# Altium integrated library Actel ProASIC3.IntLib: 427 symbols (part 4 of 68)
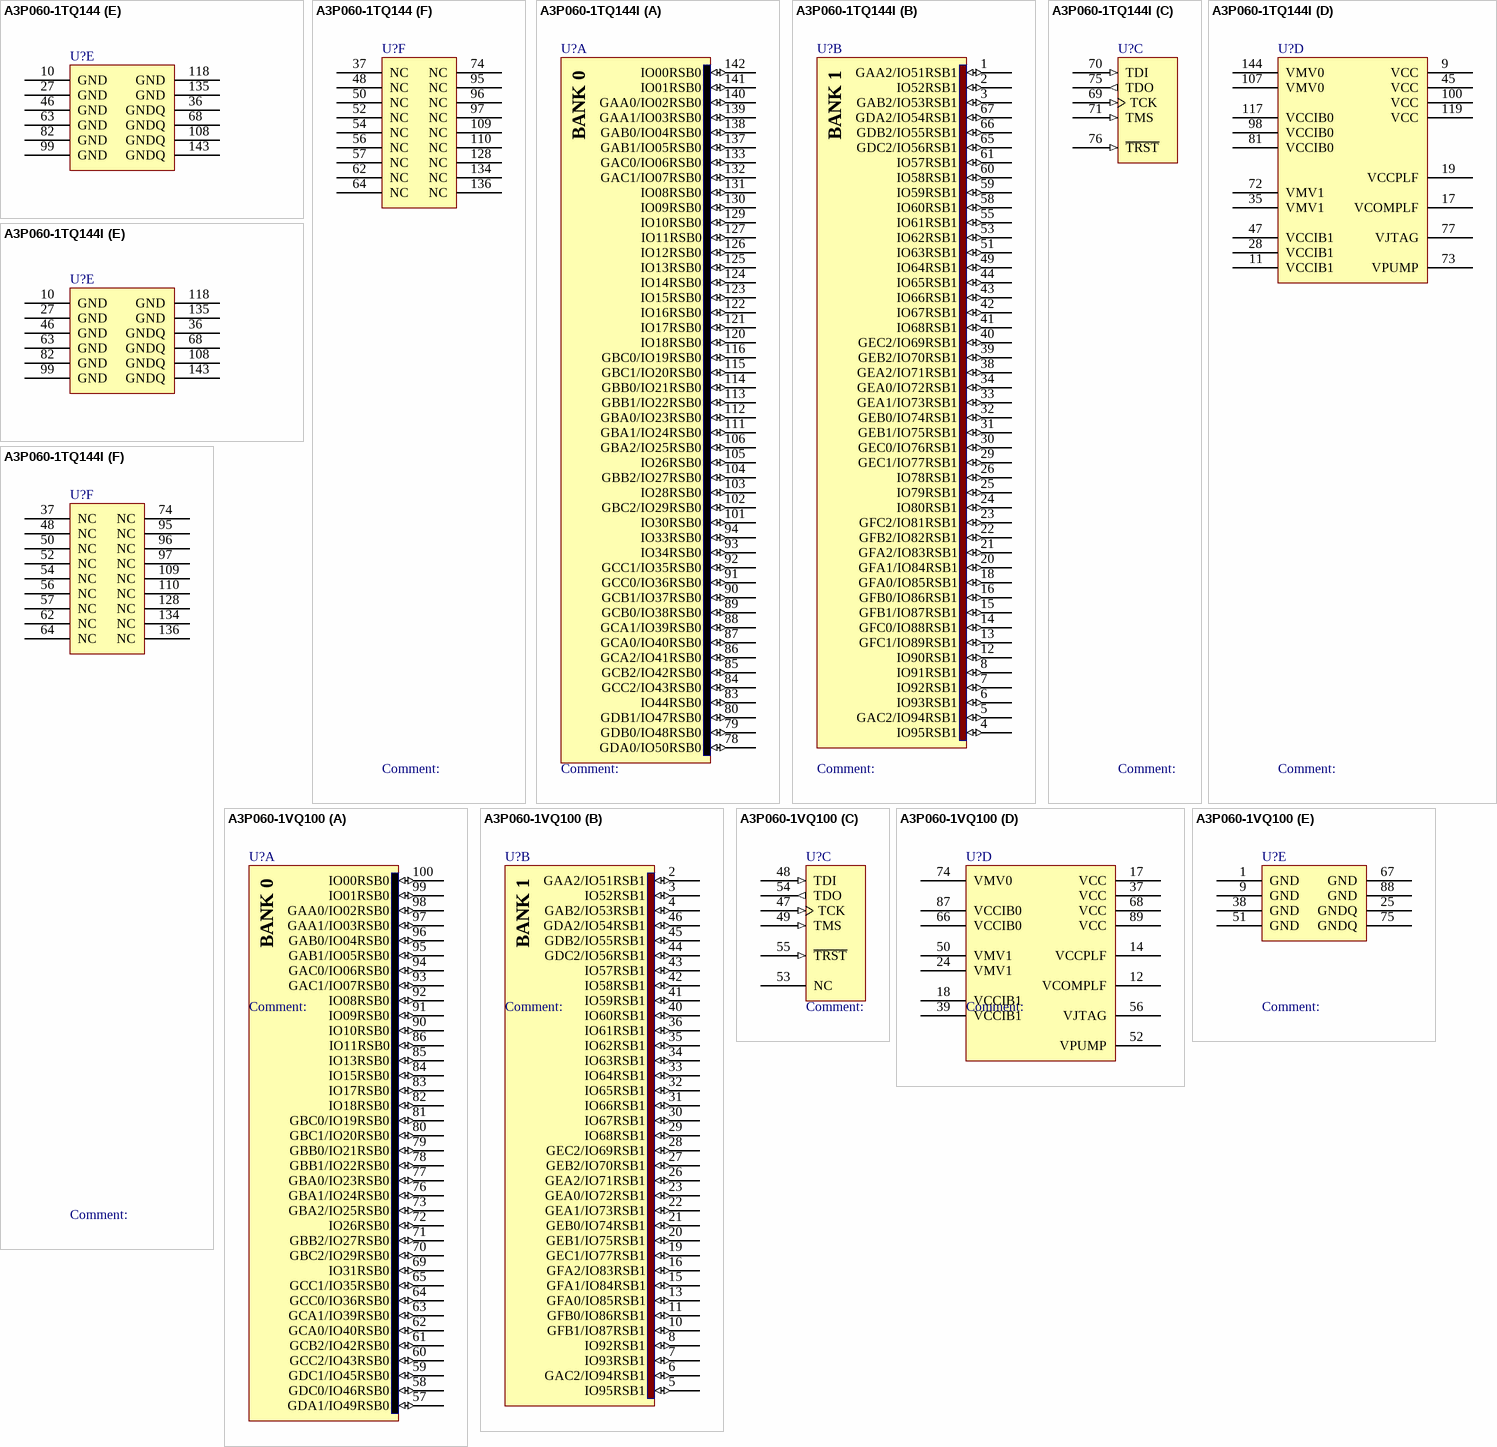
[diagram p402: symbols A3P060-1TQ144 to A3P060-1VQ100]

## A3P060-1TQ144I
designator U?
ProASIC3 Flash Family FPGA, 91 User IOs, 60K System Gates, 18 Kbits RAM, 1 Kbit Flash ROM, 1 PLL, 144-Pin TQFP, Industrial Grade; Published: 4-Mar-2005; LatestRevisionDate: 13-Apr-2006; LatestRevisionNote: IPC-7351 Footprint Added. Pinout changed to match DS ver 0.6.; DatasheetVersion: v1.1, Feb-2009; PackageVersion: v11.0, Feb-2009; PackageReference: TQ144; Publisher: Altium Limited; PackageDescription: 144-Pin Plastic Quad Flat Pack (TQ144); Code_JEDEC: MS-026-BFB; ComponentLink1Description: Manufacturer Link; ComponentLink1URL: http://www.actel.com/products/pa3/; ComponentLink2Description: Datasheet; ComponentLink2URL: http://www.actel.com/documents/PA3_DS.pdf; ComponentLink3Description: Packaging Specification; ComponentLink3URL: http://www.actel.com/documents/PckgMechDrwngs.pdf
footprint TQ144_N (Thin QFP, 144-Leads, Body 20x20mm, Pitch 0.5mm, IPC Medium Density)
footprint TQ144_L (Thin QFP, 144-Leads, Body 20x20mm, Pitch 0.5mm, IPC High Density)
footprint TQ144_M (Thin QFP, 144-Leads, Body 20x20mm, Pitch 0.5mm, IPC Low Density)
3D model A3P060-TQ144 (144-Pin Plastic Quad Flat Pack (TQ144))
signal-integrity model A3P060_TQ144 (ProASIC3)
part A pins: 78 GDA0/IO50RSB0 (io), 79 GDB0/IO48RSB0 (io), 80 GDB1/IO47RSB0 (io), 83 IO44RSB0 (io), 84 GCC2/IO43RSB0 (io), 85 GCB2/IO42RSB0 (io), 86 GCA2/IO41RSB0 (io), 87 GCA0/IO40RSB0 (io), 88 GCA1/IO39RSB0 (io), 89 GCB0/IO38RSB0 (io), 90 GCB1/IO37RSB0 (io), 91 GCC0/IO36RSB0 (io), 92 GCC1/IO35RSB0 (io), 93 IO34RSB0 (io), 94 IO33RSB0 (io), 101 IO30RSB0 (io), 102 GBC2/IO29RSB0 (io), 103 IO28RSB0 (io), 104 GBB2/IO27RSB0 (io), 105 IO26RSB0 (io), 106 GBA2/IO25RSB0 (io), 111 GBA1/IO24RSB0 (io), 112 GBA0/IO23RSB0 (io), 113 GBB1/IO22RSB0 (io), 114 GBB0/IO21RSB0 (io), 115 GBC1/IO20RSB0 (io), 116 GBC0/IO19RSB0 (io), 120 IO18RSB0 (io), 121 IO17RSB0 (io), 122 IO16RSB0 (io), 123 IO15RSB0 (io), 124 IO14RSB0 (io), 125 IO13RSB0 (io), 126 IO12RSB0 (io), 127 IO11RSB0 (io), 129 IO10RSB0 (io), 130 IO09RSB0 (io), 131 IO08RSB0 (io), 132 GAC1/IO07RSB0 (io), 133 GAC0/IO06RSB0 (io), 137 GAB1/IO05RSB0 (io), 138 GAB0/IO04RSB0 (io), 139 GAA1/IO03RSB0 (io), 140 GAA0/IO02RSB0 (io), 141 IO01RSB0 (io), 142 IO00RSB0 (io)
part B pins: 1 GAA2/IO51RSB1 (io), 2 IO52RSB1 (io), 3 GAB2/IO53RSB1 (io), 4 IO95RSB1 (io), 5 GAC2/IO94RSB1 (io), 6 IO93RSB1 (io), 7 IO92RSB1 (io), 8 IO91RSB1 (io), 12 IO90RSB1 (io), 13 GFC1/IO89RSB1 (io), 14 GFC0/IO88RSB1 (io), 15 GFB1/IO87RSB1 (io), 16 GFB0/IO86RSB1 (io), 18 GFA0/IO85RSB1 (io), 20 GFA1/IO84RSB1 (io), 21 GFA2/IO83RSB1 (io), 22 GFB2/IO82RSB1 (io), 23 GFC2/IO81RSB1 (io), 24 IO80RSB1 (io), 25 IO79RSB1 (io), 26 IO78RSB1 (io), 29 GEC1/IO77RSB1 (io), 30 GEC0/IO76RSB1 (io), 31 GEB1/IO75RSB1 (io), 32 GEB0/IO74RSB1 (io), 33 GEA1/IO73RSB1 (io), 34 GEA0/IO72RSB1 (io), 38 GEA2/IO71RSB1 (io), 39 GEB2/IO70RSB1 (io), 40 GEC2/IO69RSB1 (io), 41 IO68RSB1 (io), 42 IO67RSB1 (io), 43 IO66RSB1 (io), 44 IO65RSB1 (io), 49 IO64RSB1 (io), 51 IO63RSB1 (io), 53 IO62RSB1 (io), 55 IO61RSB1 (io), 58 IO60RSB1 (io), 59 IO59RSB1 (io), 60 IO58RSB1 (io), 61 IO57RSB1 (io), 65 GDC2/IO56RSB1 (io), 66 GDB2/IO55RSB1 (io), 67 GDA2/IO54RSB1 (io)
part C pins: 69 TCK (in), 70 TDI (in), 71 TMS (in), 75 TDO (out), 76 ~{TRST} (in)
part D pins: 9 VCC (power), 11 VCCIB1 (power), 17 VCOMPLF (power), 19 VCCPLF (power), 28 VCCIB1 (power), 35 VMV1 (power), 45 VCC (power), 47 VCCIB1 (power), 72 VMV1 (power), 73 VPUMP (power), 77 VJTAG (power), 81 VCCIB0 (power), 98 VCCIB0 (power), 100 VCC (power), 107 VMV0 (power), 117 VCCIB0 (power), 119 VCC (power), 144 VMV0 (power)
part E pins: 10 GND (power), 27 GND (power), 36 GNDQ (power), 46 GND (power), 63 GND (power), 68 GNDQ (power), 82 GND (power), 99 GND (power), 108 GNDQ (power), 118 GND (power), 135 GND (power), 143 GNDQ (power)
part F pins: 37 NC, 48 NC, 50 NC, 52 NC, 54 NC, 56 NC, 57 NC, 62 NC, 64 NC, 74 NC, 95 NC, 96 NC, 97 NC, 109 NC, 110 NC, 128 NC, 134 NC, 136 NC
part A text: BANK 0
part B text: BANK 1

## A3P060-1VQ100
designator U?
ProASIC3 Flash Family FPGA, 71 User IOs, 60K System Gates, 18 Kbits RAM, 1 Kbit Flash ROM, 1 PLL, 100-Pin VQFP, Commercial Grade; Published: 4-Mar-2005; LatestRevisionDate: 13-Apr-2006; LatestRevisionNote: IPC-7351 Footprint Added. Pinout changed to match DS ver 0.6.; DatasheetVersion: v1.1, Feb-2009; PackageVersion: v11.0, Feb-2009; PackageReference: VQ100; Publisher: Altium Limited; PackageDescription: 100-Pin Plastic Quad Flat Pack (VQ100); Code_JEDEC: MS-026-AED; ComponentLink1Description: Manufacturer Link; ComponentLink1URL: http://www.actel.com/products/pa3/; ComponentLink2Description: Datasheet; ComponentLink2URL: http://www.actel.com/documents/PA3_DS.pdf; ComponentLink3Description: Packaging Specification; ComponentLink3URL: http://www.actel.com/documents/PckgMechDrwngs.pdf
footprint VQ100_N (Thin QFP, 100-Leads, Body 14x14mm, Pitch 0.5mm, IPC Medium Density)
footprint VQ100_L (Thin QFP, 100-Leads, Body 14x14mm, Pitch 0.5mm, IPC High Density)
footprint VQ100_M (Thin QFP, 100-Leads, Body 14x14mm, Pitch 0.5mm, IPC Low Density)
3D model A3P060-VQ100 (100-Pin Plastic Quad Flat Pack (VQ100))
signal-integrity model A3P060_VQ100 (ProASIC3)
part A pins: 57 GDA1/IO49RSB0 (io), 58 GDC0/IO46RSB0 (io), 59 GDC1/IO45RSB0 (io), 60 GCC2/IO43RSB0 (io), 61 GCB2/IO42RSB0 (io), 62 GCA0/IO40RSB0 (io), 63 GCA1/IO39RSB0 (io), 64 GCC0/IO36RSB0 (io), 65 GCC1/IO35RSB0 (io), 69 IO31RSB0 (io), 70 GBC2/IO29RSB0 (io), 71 GBB2/IO27RSB0 (io), 72 IO26RSB0 (io), 73 GBA2/IO25RSB0 (io), 76 GBA1/IO24RSB0 (io), 77 GBA0/IO23RSB0 (io), 78 GBB1/IO22RSB0 (io), 79 GBB0/IO21RSB0 (io), 80 GBC1/IO20RSB0 (io), 81 GBC0/IO19RSB0 (io), 82 IO18RSB0 (io), 83 IO17RSB0 (io), 84 IO15RSB0 (io), 85 IO13RSB0 (io), 86 IO11RSB0 (io), 90 IO10RSB0 (io), 91 IO09RSB0 (io), 92 IO08RSB0 (io), 93 GAC1/IO07RSB0 (io), 94 GAC0/IO06RSB0 (io), 95 GAB1/IO05RSB0 (io), 96 GAB0/IO04RSB0 (io), 97 GAA1/IO03RSB0 (io), 98 GAA0/IO02RSB0 (io), 99 IO01RSB0 (io), 100 IO00RSB0 (io)
part B pins: 2 GAA2/IO51RSB1 (io), 3 IO52RSB1 (io), 4 GAB2/IO53RSB1 (io), 5 IO95RSB1 (io), 6 GAC2/IO94RSB1 (io), 7 IO93RSB1 (io), 8 IO92RSB1 (io), 10 GFB1/IO87RSB1 (io), 11 GFB0/IO86RSB1 (io), 13 GFA0/IO85RSB1 (io), 15 GFA1/IO84RSB1 (io), 16 GFA2/IO83RSB1 (io), 19 GEC1/IO77RSB1 (io), 20 GEB1/IO75RSB1 (io), 21 GEB0/IO74RSB1 (io), 22 GEA1/IO73RSB1 (io), 23 GEA0/IO72RSB1 (io), 26 GEA2/IO71RSB1 (io), 27 GEB2/IO70RSB1 (io), 28 GEC2/IO69RSB1 (io), 29 IO68RSB1 (io), 30 IO67RSB1 (io), 31 IO66RSB1 (io), 32 IO65RSB1 (io), 33 IO64RSB1 (io), 34 IO63RSB1 (io), 35 IO62RSB1 (io), 36 IO61RSB1 (io), 40 IO60RSB1 (io), 41 IO59RSB1 (io), 42 IO58RSB1 (io), 43 IO57RSB1 (io), 44 GDC2/IO56RSB1 (io), 45 GDB2/IO55RSB1 (io), 46 GDA2/IO54RSB1 (io)
part C pins: 47 TCK (in), 48 TDI (in), 49 TMS (in), 53 NC, 54 TDO (out), 55 ~{TRST} (in)
part D pins: 12 VCOMPLF (power), 14 VCCPLF (power), 17 VCC (power), 18 VCCIB1 (power), 24 VMV1 (power), 37 VCC (power), 39 VCCIB1 (power), 50 VMV1, 52 VPUMP (power), 56 VJTAG (power), 66 VCCIB0 (power), 68 VCC (power), 74 VMV0 (power), 87 VCCIB0 (power), 89 VCC (power)
part E pins: 1 GND (power), 9 GND (power), 25 GNDQ (power), 38 GND (power), 51 GND (power), 67 GND (power), 75 GNDQ (power), 88 GND (power)
part A text: BANK 0
part B text: BANK 1

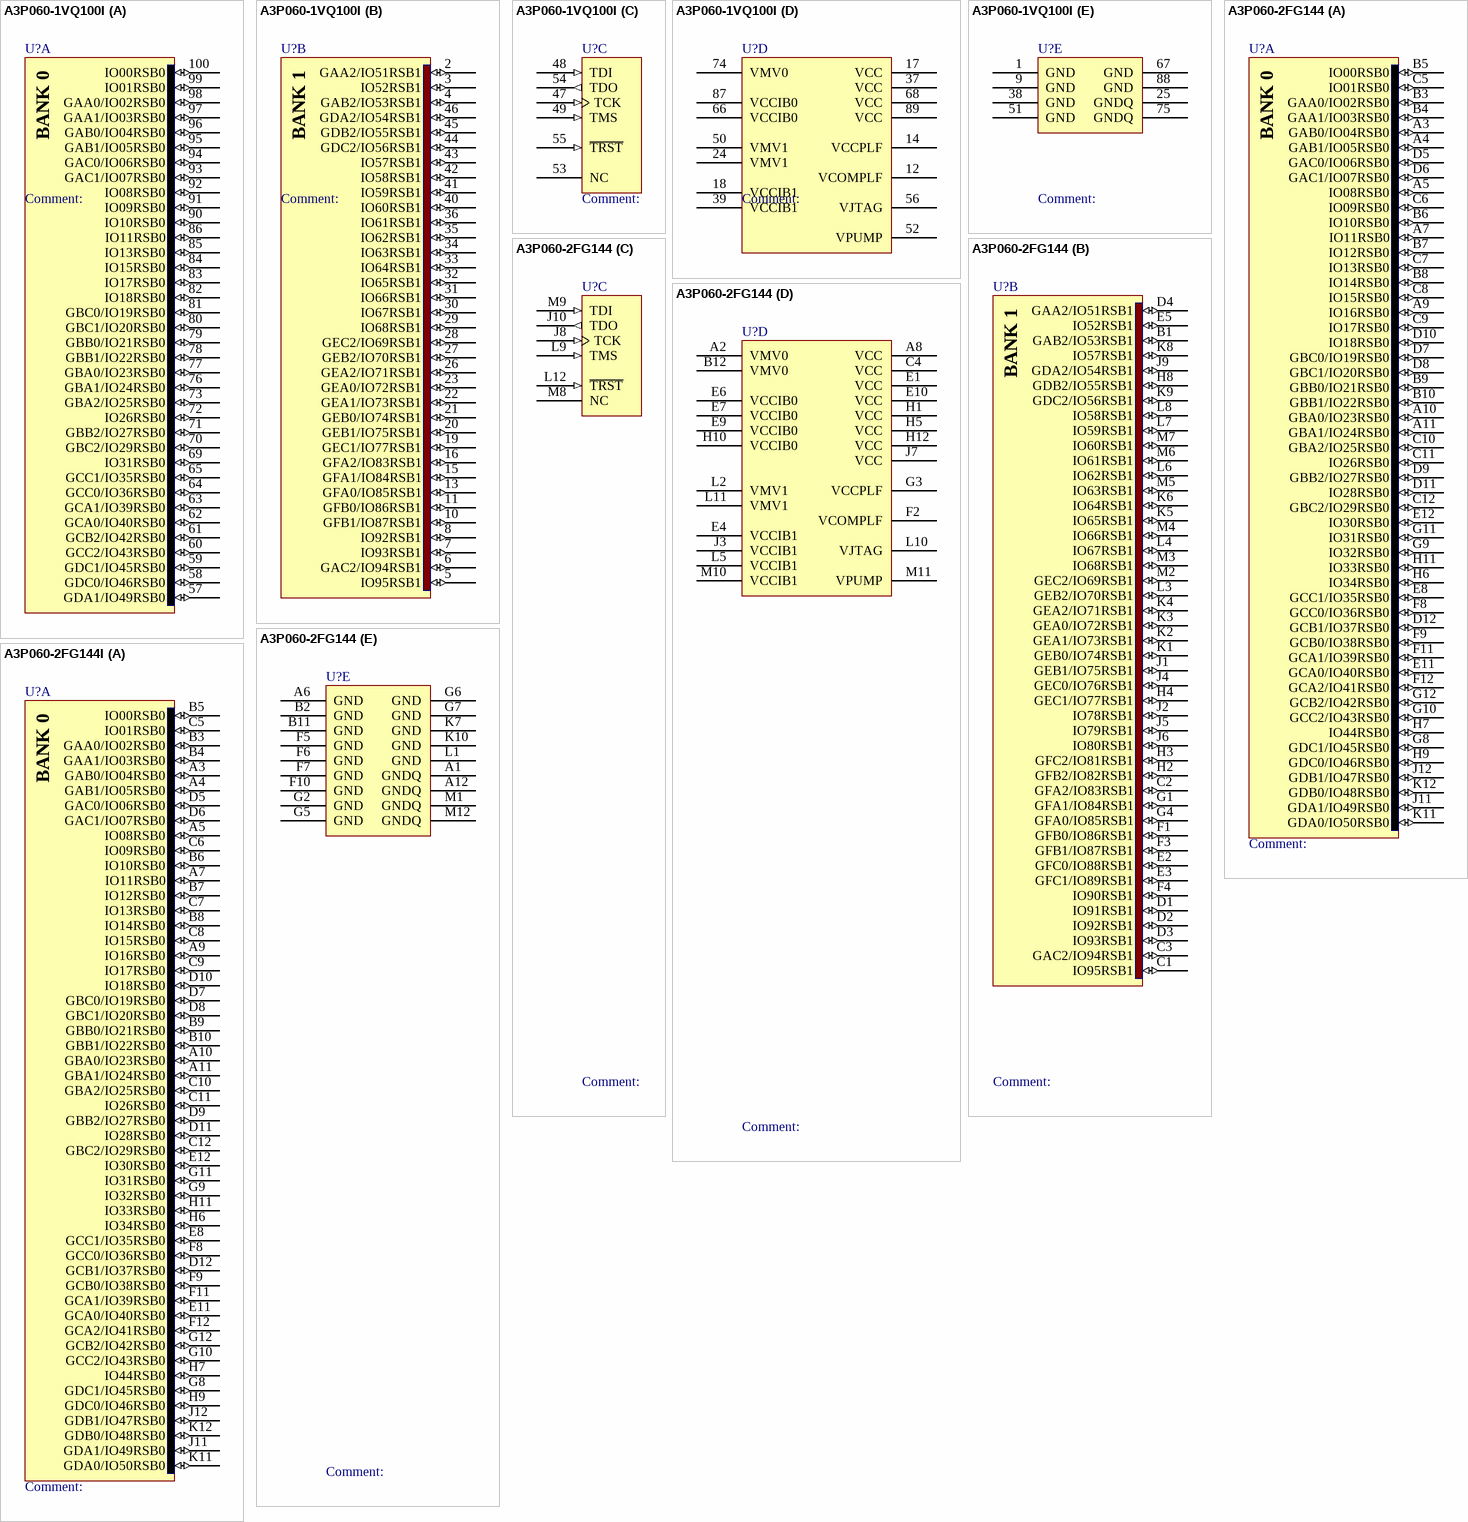
[diagram p17: symbols A3P060-1VQ100I to A3P060-2FG144I]

## A3P060-1VQ100I
designator U?
ProASIC3 Flash Family FPGA, 71 User IOs, 60K System Gates, 18 Kbits RAM, 1 Kbit Flash ROM, 1 PLL, 100-Pin VQFP, Industrial Grade; Published: 4-Mar-2005; LatestRevisionDate: 13-Apr-2006; LatestRevisionNote: IPC-7351 Footprint Added. Pinout changed to match DS ver 0.6.; DatasheetVersion: v1.1, Feb-2009; PackageVersion: v11.0, Feb-2009; PackageReference: VQ100; Publisher: Altium Limited; PackageDescription: 100-Pin Plastic Quad Flat Pack (VQ100); Code_JEDEC: MS-026-AED; ComponentLink1Description: Manufacturer Link; ComponentLink1URL: http://www.actel.com/products/pa3/; ComponentLink2Description: Datasheet; ComponentLink2URL: http://www.actel.com/documents/PA3_DS.pdf; ComponentLink3Description: Packaging Specification; ComponentLink3URL: http://www.actel.com/documents/PckgMechDrwngs.pdf
footprint VQ100_N (Thin QFP, 100-Leads, Body 14x14mm, Pitch 0.5mm, IPC Medium Density)
footprint VQ100_L (Thin QFP, 100-Leads, Body 14x14mm, Pitch 0.5mm, IPC High Density)
footprint VQ100_M (Thin QFP, 100-Leads, Body 14x14mm, Pitch 0.5mm, IPC Low Density)
3D model A3P060-VQ100 (100-Pin Plastic Quad Flat Pack (VQ100))
signal-integrity model A3P060_VQ100 (ProASIC3)
part A pins: 57 GDA1/IO49RSB0 (io), 58 GDC0/IO46RSB0 (io), 59 GDC1/IO45RSB0 (io), 60 GCC2/IO43RSB0 (io), 61 GCB2/IO42RSB0 (io), 62 GCA0/IO40RSB0 (io), 63 GCA1/IO39RSB0 (io), 64 GCC0/IO36RSB0 (io), 65 GCC1/IO35RSB0 (io), 69 IO31RSB0 (io), 70 GBC2/IO29RSB0 (io), 71 GBB2/IO27RSB0 (io), 72 IO26RSB0 (io), 73 GBA2/IO25RSB0 (io), 76 GBA1/IO24RSB0 (io), 77 GBA0/IO23RSB0 (io), 78 GBB1/IO22RSB0 (io), 79 GBB0/IO21RSB0 (io), 80 GBC1/IO20RSB0 (io), 81 GBC0/IO19RSB0 (io), 82 IO18RSB0 (io), 83 IO17RSB0 (io), 84 IO15RSB0 (io), 85 IO13RSB0 (io), 86 IO11RSB0 (io), 90 IO10RSB0 (io), 91 IO09RSB0 (io), 92 IO08RSB0 (io), 93 GAC1/IO07RSB0 (io), 94 GAC0/IO06RSB0 (io), 95 GAB1/IO05RSB0 (io), 96 GAB0/IO04RSB0 (io), 97 GAA1/IO03RSB0 (io), 98 GAA0/IO02RSB0 (io), 99 IO01RSB0 (io), 100 IO00RSB0 (io)
part B pins: 2 GAA2/IO51RSB1 (io), 3 IO52RSB1 (io), 4 GAB2/IO53RSB1 (io), 5 IO95RSB1 (io), 6 GAC2/IO94RSB1 (io), 7 IO93RSB1 (io), 8 IO92RSB1 (io), 10 GFB1/IO87RSB1 (io), 11 GFB0/IO86RSB1 (io), 13 GFA0/IO85RSB1 (io), 15 GFA1/IO84RSB1 (io), 16 GFA2/IO83RSB1 (io), 19 GEC1/IO77RSB1 (io), 20 GEB1/IO75RSB1 (io), 21 GEB0/IO74RSB1 (io), 22 GEA1/IO73RSB1 (io), 23 GEA0/IO72RSB1 (io), 26 GEA2/IO71RSB1 (io), 27 GEB2/IO70RSB1 (io), 28 GEC2/IO69RSB1 (io), 29 IO68RSB1 (io), 30 IO67RSB1 (io), 31 IO66RSB1 (io), 32 IO65RSB1 (io), 33 IO64RSB1 (io), 34 IO63RSB1 (io), 35 IO62RSB1 (io), 36 IO61RSB1 (io), 40 IO60RSB1 (io), 41 IO59RSB1 (io), 42 IO58RSB1 (io), 43 IO57RSB1 (io), 44 GDC2/IO56RSB1 (io), 45 GDB2/IO55RSB1 (io), 46 GDA2/IO54RSB1 (io)
part C pins: 47 TCK (in), 48 TDI (in), 49 TMS (in), 53 NC, 54 TDO (out), 55 ~{TRST} (in)
part D pins: 12 VCOMPLF (power), 14 VCCPLF (power), 17 VCC (power), 18 VCCIB1 (power), 24 VMV1 (power), 37 VCC (power), 39 VCCIB1 (power), 50 VMV1, 52 VPUMP (power), 56 VJTAG (power), 66 VCCIB0 (power), 68 VCC (power), 74 VMV0 (power), 87 VCCIB0 (power), 89 VCC (power)
part E pins: 1 GND (power), 9 GND (power), 25 GNDQ (power), 38 GND (power), 51 GND (power), 67 GND (power), 75 GNDQ (power), 88 GND (power)
part A text: BANK 0
part B text: BANK 1

## A3P060-2FG144
designator U?
ProASIC3 Flash Family FPGA, 96 User IOs, 60K System Gates, 18 Kbits RAM, 1 Kbit Flash ROM, 1 PLL, 144-Ball FBGA, Commercial Grade; Published: 4-Mar-2005; LatestRevisionDate: 13-Apr-2006; LatestRevisionNote: IPC-7351 Footprint Added. Pinout changed to match DS ver 0.6.; DatasheetVersion: v1.1, Feb-2009; PackageVersion: v11.0, Feb-2009; PackageReference: FG144; Publisher: Altium Limited; PackageDescription: 144-Ball Fine Pitch Plastic Ball Grid Array (FG144); Code_JEDEC: MO-192-DAD-1; ComponentLink1Description: Manufacturer Link; ComponentLink1URL: http://www.actel.com/products/pa3/; ComponentLink2Description: Datasheet; ComponentLink2URL: http://www.actel.com/documents/PA3_DS.pdf; ComponentLink3Description: Packaging Specification; ComponentLink3URL: http://www.actel.com/documents/PckgMechDrwngs.pdf
footprint FG144 (BGA, 144-Leads, Body 13x13mm, Pitch 1mm)
3D model A3P060-FG144 (144-Ball Fine Pitch Plastic Ball Grid Array (FG144))
signal-integrity model A3P060_FG144 (ProASIC3)
part A pins: A3 GAB0/IO04RSB0 (io), A4 GAB1/IO05RSB0 (io), A5 IO08RSB0 (io), A7 IO11RSB0 (io), A9 IO16RSB0 (io), A10 GBA0/IO23RSB0 (io), A11 GBA1/IO24RSB0 (io), B3 GAA0/IO02RSB0 (io), B4 GAA1/IO03RSB0 (io), B5 IO00RSB0 (io), B6 IO10RSB0 (io), B7 IO12RSB0 (io), B8 IO14RSB0 (io), B9 GBB0/IO21RSB0 (io), B10 GBB1/IO22RSB0 (io), C5 IO01RSB0 (io), C6 IO09RSB0 (io), C7 IO13RSB0 (io), C8 IO15RSB0 (io), C9 IO17RSB0 (io), C10 GBA2/IO25RSB0 (io), C11 IO26RSB0 (io), C12 GBC2/IO29RSB0 (io), D5 GAC0/IO06RSB0 (io), D6 GAC1/IO07RSB0 (io), D7 GBC0/IO19RSB0 (io), D8 GBC1/IO20RSB0 (io), D9 GBB2/IO27RSB0 (io), D10 IO18RSB0 (io), D11 IO28RSB0 (io), D12 GCB1/IO37RSB0 (io), E8 GCC1/IO35RSB0 (io), E11 GCA0/IO40RSB0 (io), E12 IO30RSB0 (io), F8 GCC0/IO36RSB0 (io), F9 GCB0/IO38RSB0 (io), F11 GCA1/IO39RSB0 (io), F12 GCA2/IO41RSB0 (io), G8 GDC1/IO45RSB0 (io), G9 IO32RSB0 (io), G10 GCC2/IO43RSB0 (io), G11 IO31RSB0 (io), G12 GCB2/IO42RSB0 (io), H6 IO34RSB0 (io), H7 IO44RSB0 (io), H9 GDC0/IO46RSB0 (io), H11 IO33RSB0 (io), J11 GDA1/IO49RSB0 (io), J12 GDB1/IO47RSB0 (io), K11 GDA0/IO50RSB0 (io), K12 GDB0/IO48RSB0 (io)
part B pins: B1 GAB2/IO53RSB1 (io), C1 IO95RSB1 (io), C2 GFA2/IO83RSB1 (io), C3 GAC2/IO94RSB1 (io), D1 IO91RSB1 (io), D2 IO92RSB1 (io), D3 IO93RSB1 (io), D4 GAA2/IO51RSB1 (io), E2 GFC0/IO88RSB1 (io), E3 GFC1/IO89RSB1 (io), E5 IO52RSB1 (io), F1 GFB0/IO86RSB1 (io), F3 GFB1/IO87RSB1 (io), F4 IO90RSB1 (io), G1 GFA1/IO84RSB1 (io), G4 GFA0/IO85RSB1 (io), H2 GFB2/IO82RSB1 (io), H3 GFC2/IO81RSB1 (io), H4 GEC1/IO77RSB1 (io), H8 GDB2/IO55RSB1 (io), J1 GEB1/IO75RSB1 (io), J2 IO78RSB1 (io), J4 GEC0/IO76RSB1 (io), J5 IO79RSB1 (io), J6 IO80RSB1 (io), J9 GDA2/IO54RSB1 (io), K1 GEB0/IO74RSB1 (io), K2 GEA1/IO73RSB1 (io), K3 GEA0/IO72RSB1 (io), K4 GEA2/IO71RSB1 (io), K5 IO65RSB1 (io), K6 IO64RSB1 (io), K8 IO57RSB1 (io), K9 GDC2/IO56RSB1 (io), L3 GEB2/IO70RSB1 (io), L4 IO67RSB1 (io), L6 IO62RSB1 (io), L7 IO59RSB1 (io), L8 IO58RSB1 (io), M2 GEC2/IO69RSB1 (io), M3 IO68RSB1 (io), M4 IO66RSB1 (io), M5 IO63RSB1 (io), M6 IO61RSB1 (io), M7 IO60RSB1 (io)
part C pins: J8 TCK (in), J10 TDO (out), L9 TMS (in), L12 ~{TRST} (in), M8 NC, M9 TDI (in)
part D pins: A2 VMV0 (power), A8 VCC (power), B12 VMV0 (power), C4 VCC (power), E1 VCC (power), E4 VCCIB1 (power), E6 VCCIB0 (power), E7 VCCIB0 (power), E9 VCCIB0 (power), E10 VCC (power), F2 VCOMPLF (power), G3 VCCPLF (power), H1 VCC (power), H5 VCC (power), H10 VCCIB0 (power), H12 VCC (power), J3 VCCIB1 (power), J7 VCC (power), L2 VMV1 (power), L5 VCCIB1 (power), L10 VJTAG (power), L11 VMV1 (power), M10 VCCIB1 (power), M11 VPUMP (power)
part E pins: A1 GNDQ (power), A6 GND (power), A12 GNDQ (power), B2 GND (power), B11 GND (power), F5 GND (power), F6 GND (power), F7 GND (power), F10 GND (power), G2 GND (power), G5 GND (power), G6 GND (power), G7 GND (power), K7 GND (power), K10 GND (power), L1 GND (power), M1 GNDQ (power), M12 GNDQ (power)
part A text: BANK 0
part B text: BANK 1

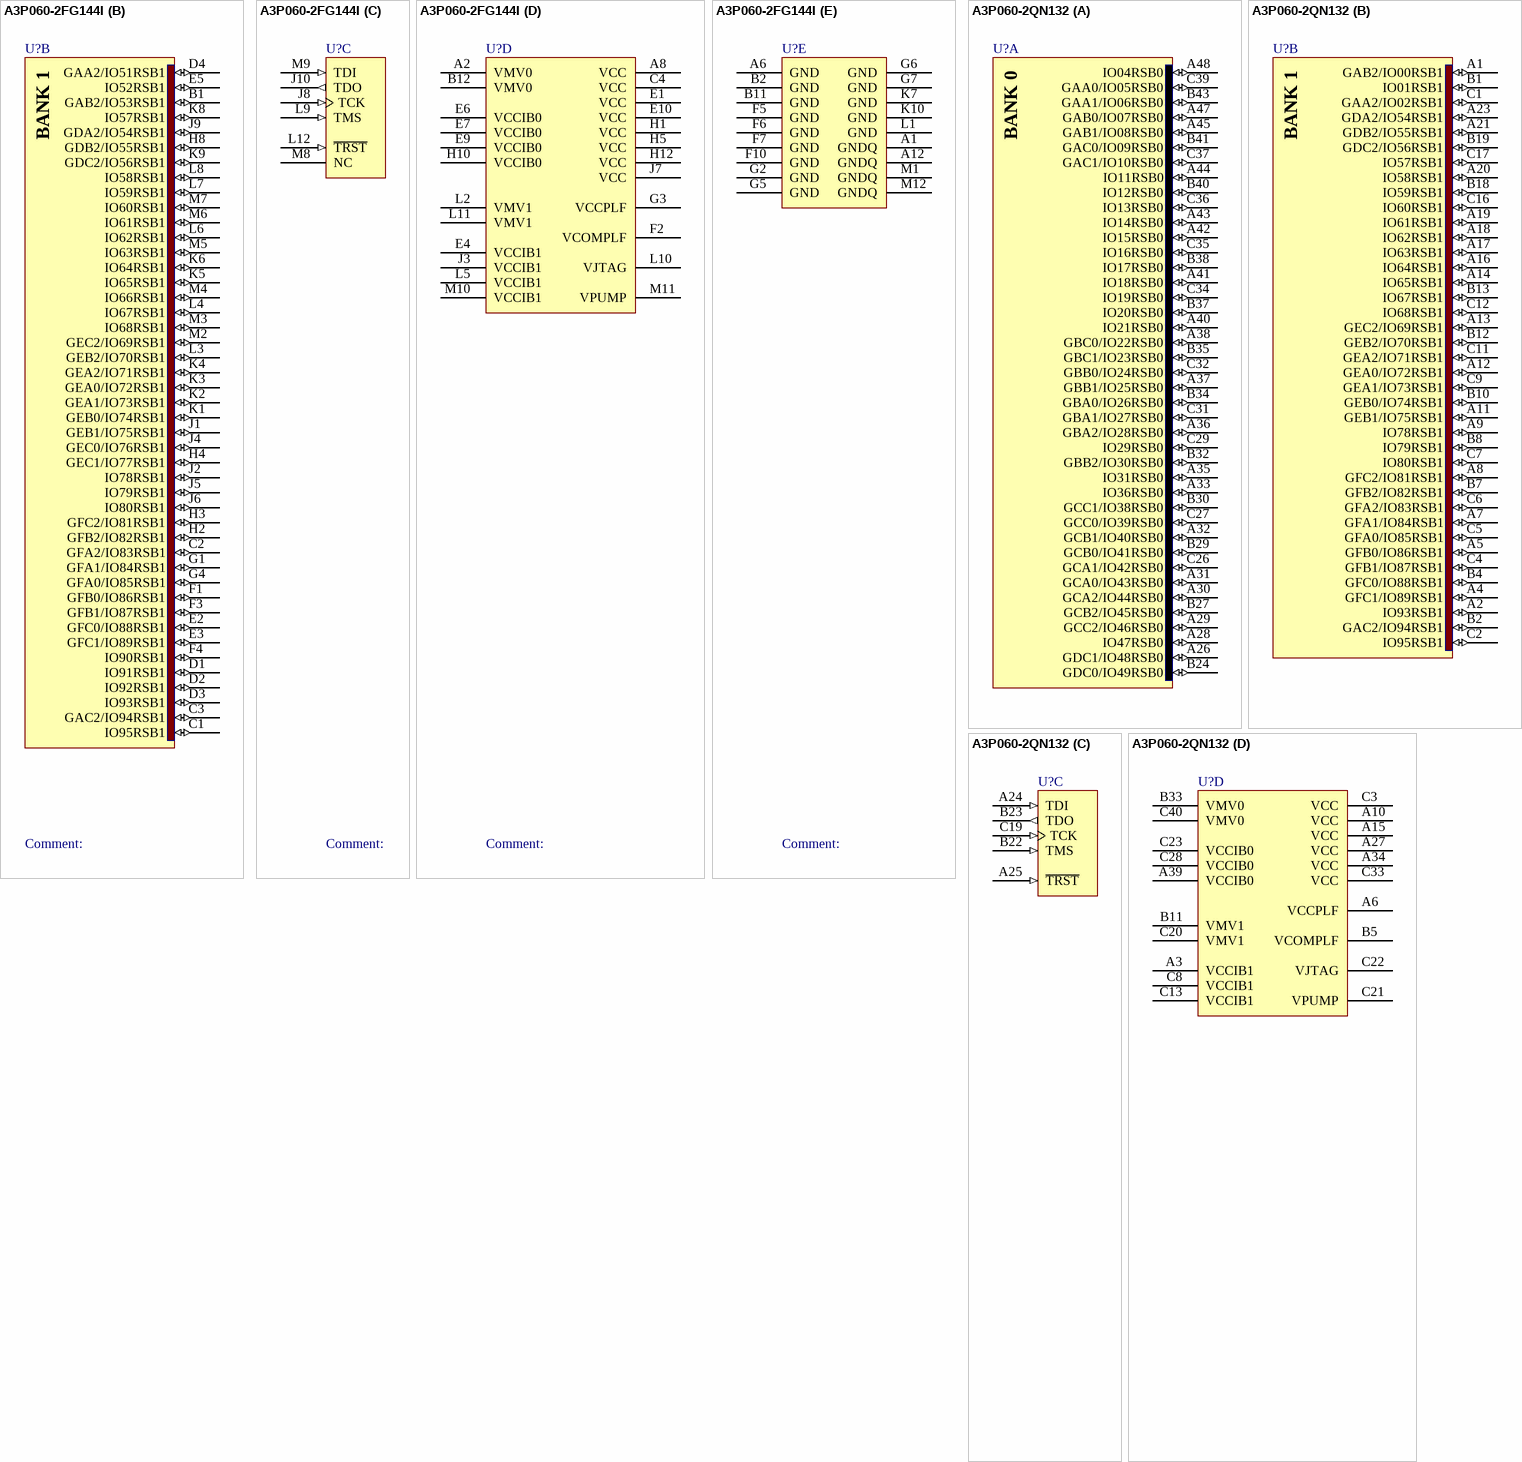
[diagram p18: symbols A3P060-2FG144I to A3P060-2QN132]